# EAGLE library part LTC7812 (library PSU)
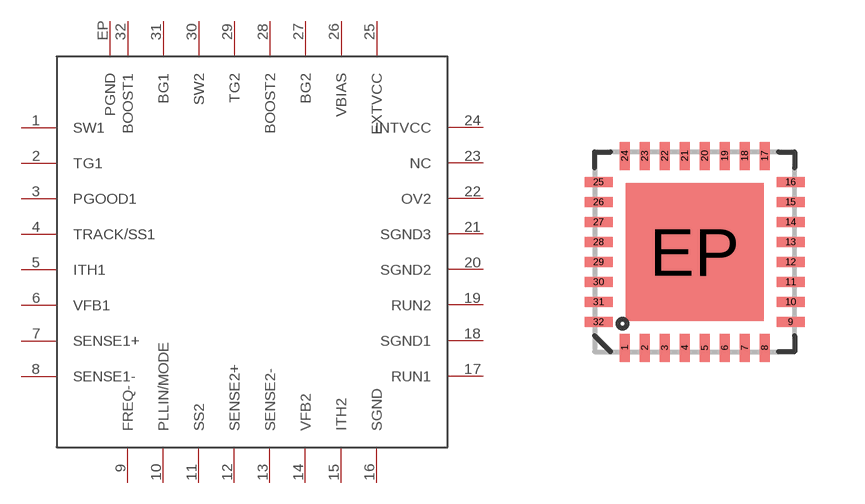
[diagram p0: symbol with the pads of QFN-32_UH; footprint QFN-32_UH]

Designator prefix U

## LTC7812  [QFN-32_UH]
1  SW1
2  TG1
3  PGOOD1
4  TRACK/SS1
5  ITH1
6  VFB1
7  SENSE1+
8  SENSE1-
9  FREQ-
10  PLLIN/MODE
11  SS2
12  SENSE2+
13  SENSE2-
14  VFB2
15  ITH2
16  SGND
17  RUN1
18  SGND1
19  RUN2
20  SGND2
21  SGND3
22  OV2
23  NC
24  INTVCC
25  EXTVCC
26  VBIAS
27  BG2
28  BOOST2
29  TG2
30  SW2
31  BG1
32  BOOST1
EP  PGND

## Footprint QFN-32_UH (pad centres in mm)
smd 0.25 x 0.7: 1 -1.75,-2.4; 2 -1.25,-2.4; 3 -0.75,-2.4; 4 -0.25,-2.4; 5 0.25,-2.4; 6 0.75,-2.4; 7 1.25,-2.4; 8 1.75,-2.4; 17 1.75,2.4; 18 1.25,2.4; 19 0.75,2.4; 20 0.25,2.4; 21 -0.25,2.4; 22 -0.75,2.4; 23 -1.25,2.4; 24 -1.75,2.4
smd 0.7 x 0.25: 9 2.4,-1.75; 10 2.4,-1.25; 11 2.4,-0.75; 12 2.4,-0.25; 13 2.4,0.25; 14 2.4,0.75; 15 2.4,1.25; 16 2.4,1.75; 25 -2.4,1.75; 26 -2.4,1.25; 27 -2.4,0.75; 28 -2.4,0.25; 29 -2.4,-0.25; 30 -2.4,-0.75; 31 -2.4,-1.25; 32 -2.4,-1.75
smd 3.45 x 3.45: EP 0,0